# Altium footprint library Humidity Regulator.PcbLib: 29 footprints (part 2 of 2)
Each footprint in its own frame and in the unit in brackets; x right, y up, seen from the top. Pads: shape width x height; smd on the part's side, far side on the other; paste and mask are expansions set on the pad; w line width, h text height; cw(c..) or ccw(c..) is an arc to the next point about the centre after c.
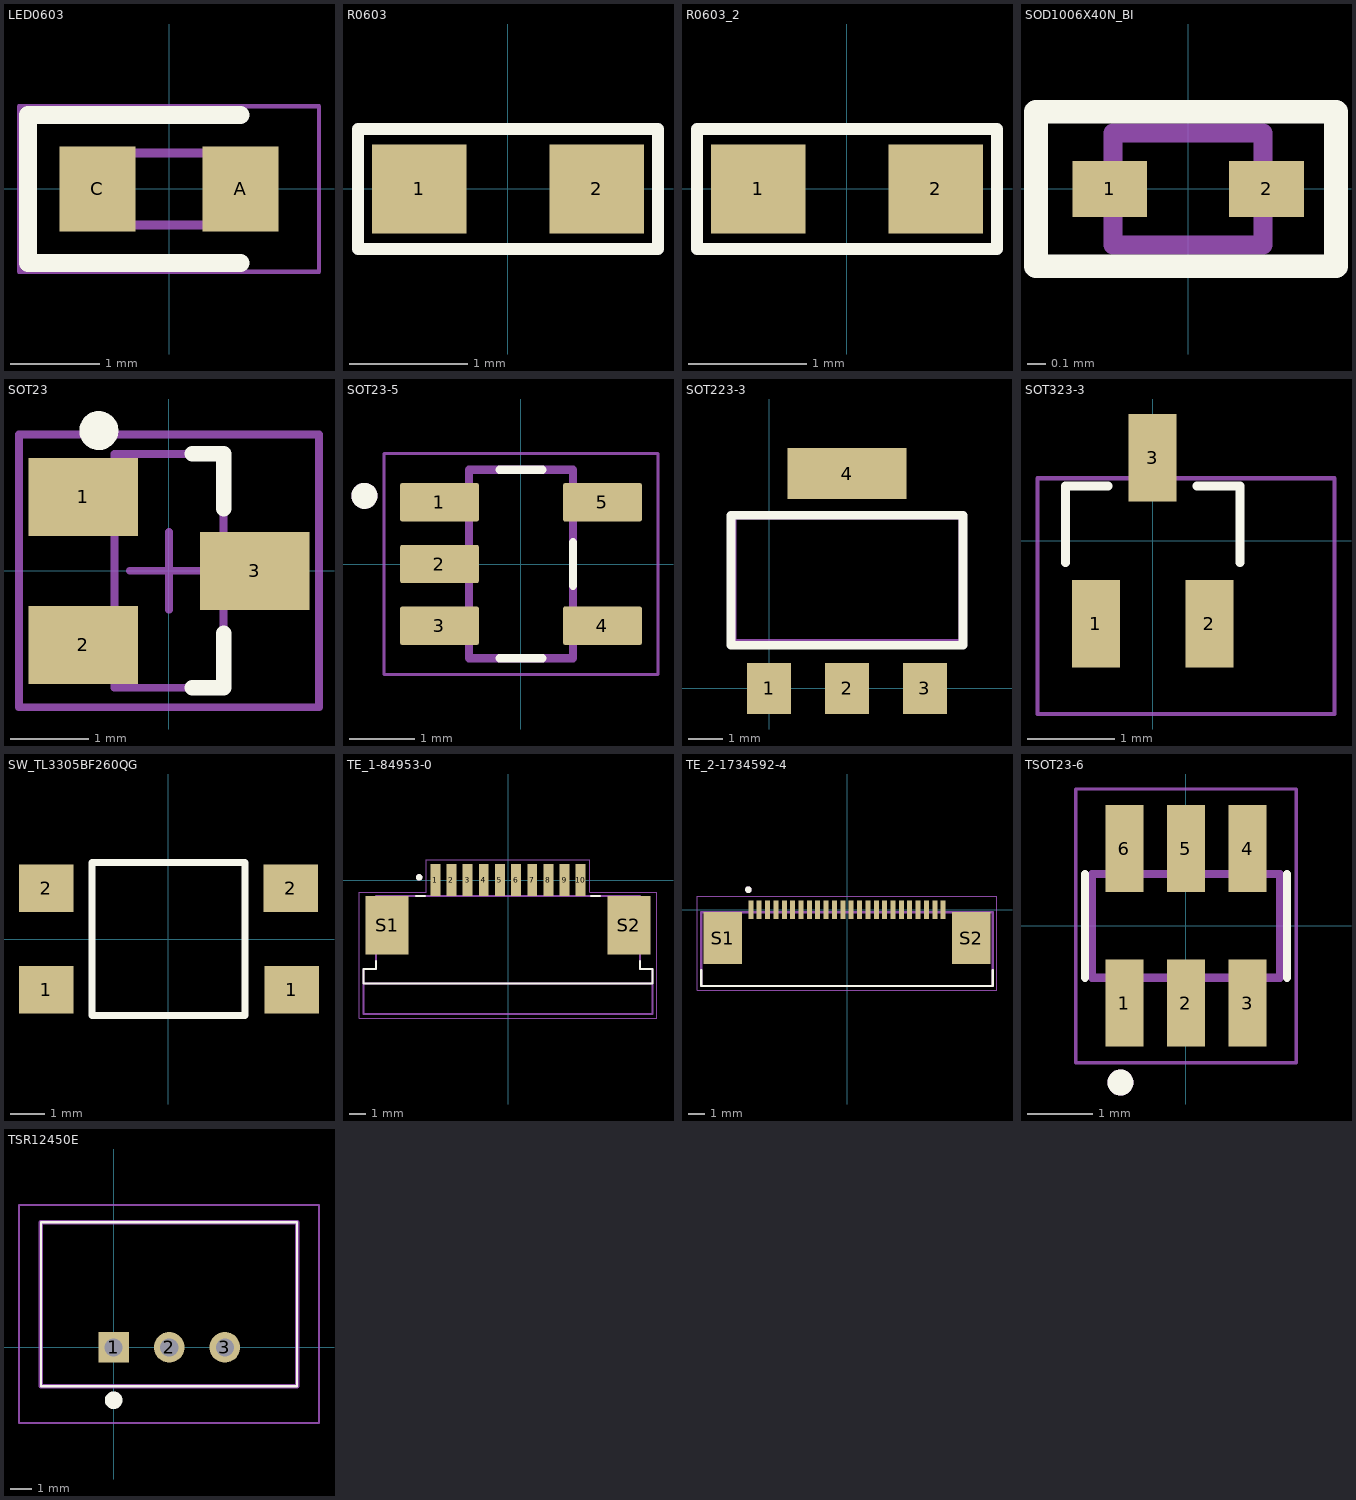
[diagram p1: the footprints below, top view; thin cyan lines are the x and y axes]

## LED0603 [mm]
height 2.5
pads (2):
  rect 0.85x0.95 smd: A(0.8,0) C(-0.8,0)
Top Overlay:
  lines w0.2: 0.8,-0.825 -1.575,-0.825 -1.575,0.825 0.8,0.825
Mechanical 15:
  lines w0.1: -0.8,0.133 -0.533,0.4 ; -0.8,-0.4 0.8,-0.4 0.8,0.4 -0.8,0.4 -0.8,-0.4
Mechanical 20:
  lines w0.05: -1.675,-0.925 1.675,-0.925 1.675,0.925 -1.675,0.925 -1.675,-0.925
3D body "SML-D12U1WT86.stp": height 0.54, standoff -0.02, extent -0.8,-0.4 0.8,0.4

## R0603 [mm] "RESISTOR SMD 0603"
height 0.45
pads (2):
  rect 0.8x0.75 smd: 1(-0.75,0) 2(0.75,0)
Top Overlay:
  lines w0.1: -1.27,-0.508 -1.27,0.508 1.27,0.508 1.27,-0.508 -1.27,-0.508
3D body "User Library-0603(1608M) Res.STEP": height 0.79, standoff 0, extent -1,-0.394 1,0.394

## R0603_2 [mm]
pads (2):
  rect 0.8x0.75 smd: 1(-0.75,0) 2(0.75,0)
Top Overlay:
  lines w0.1: -1.27,-0.508 1.27,-0.508 1.27,0.508 -1.27,0.508 -1.27,-0.508
3D body "User Library-0603(1608M) Res.STEP": height 0.79, standoff 0, extent -1,-0.394 1,0.394

## SOD1006X40N_BI [mm] "ESD9B3.3ST5G,ESD9B3.3ST5G"
height 0.4
pads (2):
  rect 0.4x0.3 smd mask+0.051: 1(-0.42,0) 2(0.42,0)
Top Overlay:
  lines w0.127: -0.816,-0.415 0.793,-0.415 0.793,0.414 -0.816,0.414 -0.816,-0.415
Mechanical 12:
  lines w0.102: -0.404,-0.3 0.4,-0.3 0.4,0.3 -0.404,0.3 -0.404,-0.3
  text ".Designator" at 1.69,0.138 h1.02
3D body "User Library-DIODE_SOD-923.step": height 0.43, standoff 0, extent -0.525,-0.325 0.525,0.325

## SOT23 [mm] "SOT23 semtech SM712"
height 1
pads (3):
  rect 1.4x1 smd: 1(-1.1,0.95) 2(-1.1,-0.95) 3(1.1,0)
Top Overlay:
  circle w0.25: c-0.9,1.8 r0.125
  lines w0.2: 0.3,-1.5 0.7,-1.5 0.7,-0.8 ; 0.3,1.5 0.7,1.5 0.7,0.8
Mechanical 13:
  lines w0.1: -0.7,-1.5 -0.7,1.5 0.7,1.5 0.7,-1.5 -0.7,-1.5
  text ".Designator" at -0.08,0.877 h0.25
Mechanical 15:
  lines w0.1: -0.5,0 0.5,0 ; 0,-0.5 0,0.5 ; -1.925,-1.75 -1.925,1.75 1.925,1.75 1.925,-1.75 -1.925,-1.75
3D body: height 1.1, standoff 0.1, extent -0.7,-1.5 0.7,1.5
3D body: height 0.2, standoff 0, extent -1.422,0.711 -1.067,1.219
3D body: height 0.2, standoff 0, extent -1.473,-1.219 -1.067,-0.711
3D body: height 0.2, standoff 0, extent 1.067,-0.254 1.473,0.254
3D body: height 0.55, standoff 0, extent -1.067,0.711 -0.864,1.219
3D body: height 0.55, standoff 0, extent -1.067,-1.219 -0.864,-0.711
3D body: height 0.55, standoff 0, extent 0.864,-0.254 1.067,0.254
3D body: height 0.55, standoff 0.35, extent 0.66,-0.254 0.864,0.254
3D body: height 0.55, standoff 0.35, extent -0.864,-1.219 -0.66,-0.711
3D body: height 0.55, standoff 0.35, extent -0.864,0.711 -0.61,1.219

## SOT23-5 [mm]
height 0.5
pads (5):
  rrect9% 1.21x0.59 smd: 1(-1.255,0.95) 2(-1.255,0) 3(-1.255,-0.95) 4(1.255,-0.95) 5(1.255,0.95)
Top Overlay:
  circle w0.2: c-2.41,1.05 r0.1
  lines w0.127: -0.33,-1.45 0.33,-1.45 ; -0.33,1.45 0.33,1.45 ; 0.8,-0.335 0.8,0.335
Mechanical 13:
  circle w0.2: c-2.41,1.05 r0.1
  lines w0.127: -0.8,-1.45 0.8,-1.45 0.8,1.45 -0.8,1.45 -0.8,-1.45
Mechanical 15:
  lines w0.05: -2.11,-1.7 -2.11,1.7 2.11,1.7 2.11,-1.7 -2.11,-1.7
3D body "step_temp.STEP": height 1.45, standoff 0, extent -1.4,-1.45 1.4,1.45

## SOT223-3 [mm]
height 2
pads (4):
  rect 1.3x1.5 smd: 1(0,0) 2(2.286,0) 3(4.572,0)
  rect 3.5x1.5 smd: 4(2.286,6.299)
Top Overlay:
  lines w0.254: -1.116,1.27 5.688,1.27 5.688,5.08 -1.116,5.08 -1.116,1.27
Mechanical 1:
  lines w0.2: -1.05,1.35 5.65,1.35 5.65,5.05 -1.05,5.05 -1.05,1.35
3D body "SW3dPS-sot-223.step": height 1.64, standoff -0.04, extent -1,-0.3 5.5,6.632

## SOT323-3 [mm]
height 17.75
pads (3):
  rect 0.55x1 smd: 1(-0.65,-0.95) 2(0.65,-0.95) 3(0,0.95)
Top Overlay:
  lines w0.1: -1,-0.254 -1,0.625 -0.508,0.625 ; 0.508,0.625 1,0.625 1,-0.254
Mechanical 20:
  lines w0.05: -1.319,-1.985 -1.319,0.715 2.081,0.715 2.081,-1.985 -1.319,-1.985
3D body "BSS138PW,115.stp": height 0.93, standoff -0.02, extent -1.084,-1.05 1.016,1.05

## SW_TL3305BF260QG [mm]
pads (4):
  rect 1.6x1.4 smd: 1(-3.6,-1.5) 1(3.63,-1.5) 2(-3.6,1.5) 2(3.6,1.5)
Top Overlay:
  lines w0.2: -2.25,-2.25 -2.25,2.25 2.25,2.25 2.25,-2.25 -2.25,-2.25

## TE_1-84953-0 [mm]
height 0.5
pads (12):
  rect 0.61x2 smd: 1(-4.5,0) 2(-3.5,0) 3(-2.5,0) 4(-1.5,0) 5(-0.5,0) 6(0.5,0) 7(1.5,0) 8(2.5,0) 9(3.5,0) 10(4.5,0)
  rect 2.68x3.6 smd: S1(-7.49,-2.8) S2(7.49,-2.8)
Top Overlay:
  circle w0.2: c-5.5,0.17 r0.1
  lines w0.127: -8.175,-5 -8.175,-5.51 -8.96,-5.51 -8.96,-6.4 8.96,-6.4 8.96,-5.51 8.175,-5.51 8.175,-5 ; -5.7,-1 -5.14,-1 ; 5.14,-1 5.7,-1
Mechanical 13:
  circle w0.2: c-5.5,0.17 r0.1
  lines w0.127: -8.96,-6.4 -8.96,-8.3 8.96,-8.3 8.96,-6.4 ; -8.96,-6.4 8.96,-6.4 ; -8.96,-6.4 -8.96,-5.51 -8.175,-5.51 -8.175,-1 8.175,-1 8.175,-5.51 8.96,-5.51 8.96,-6.4
Mechanical 15:
  lines w0.05: -9.21,-8.55 9.21,-8.55 9.21,-0.75 5.055,-0.75 5.055,1.25 -5.055,1.25 -5.055,-0.75 -9.21,-0.75 -9.21,-8.55
3D body "1-84953-0.stp": height 2.56, standoff -0.1, extent -8.955,-6.423 8.955,0.127

## TE_2-1734592-4 [mm]
height 0.5
pads (26):
  rect 0.3x1.1 smd: 1(-5.75,0) 2(-5.25,0) 3(-4.75,0) 4(-4.25,0) 5(-3.75,0) 6(-3.25,0) 7(-2.75,0) 8(-2.25,0) 9(-1.75,0) 10(-1.25,0) 11(-0.75,0) 12(-0.25,0) 13(0.25,0) 14(0.75,0) 15(1.25,0) 16(1.75,0) 17(2.25,0) 18(2.75,0) 19(3.25,0) 20(3.75,0) 21(4.25,0) 22(4.75,0) 23(5.25,0) 24(5.75,0)
  rect 2.3x3.1 smd: S1(-7.42,-1.7) S2(7.42,-1.7)
Top Overlay:
  circle w0.2: c-5.9,1.2 r0.1
  lines w0.127: -8.715,-3.6 -8.715,-4.55 8.715,-4.55 8.715,-3.6
Mechanical 13:
  circle w0.2: c-5.9,1.2 r0.1
  lines w0.127: -8.715,-4.55 8.715,-4.55 8.715,-0.15 -8.715,-0.15 -8.715,-4.55
Mechanical 15:
  lines w0.05: -8.965,-4.8 8.965,-4.8 8.965,0.8 -8.965,0.8 -8.965,-4.8

## TSOT23-6 [mm] "SOT23 semtech SM712"
height 1
pads (6):
  rect 0.59x1.34 smd: 1(-0.95,-1.19) 2(0,-1.19) 3(0.95,-1.19) 4(0.95,1.19) 5(0,1.19) 6(-0.95,1.19)
Top Overlay:
  circle w0.2: c-1.011,-2.416 r0.1
  lines w0.127: -1.558,-0.8 -1.558,0.8 ; 1.559,-0.8 1.559,0.8
Mechanical 13:
  circle w0.2: c-1.011,-2.416 r0.1
  lines w0.127: -1.45,-0.8 -1.45,0.8 1.45,0.8 1.45,-0.8 -1.45,-0.8
Mechanical 15:
  lines w0.05: -1.7,-2.11 -1.7,2.11 1.7,2.11 1.7,-2.11 -1.7,-2.11
3D body "step_temp.STEP": height 1, standoff 0, extent -1.45,-1.4 1.45,1.4

## TSR12450E [mm]
pads (3):
  rect 1.4x1.4 hole 0.83: 1(0,0)
  round 1.4 hole 0.83: 2(2.54,0) 3(5.08,0)
Top Overlay:
  circle w0.4: c0,-2.413 r0.2
  lines w0.1: -3.32,-1.778 8.38,-1.778 8.38,5.715 -3.32,5.715 -3.32,-1.778
Mechanical 15:
  lines w0.2: -3.32,-1.778 8.38,-1.778 8.38,5.715 -3.32,5.715 -3.32,-1.778
Mechanical 20:
  lines w0.1: -4.32,-3.45 9.38,-3.45 9.38,6.5 -4.32,6.5 -4.32,-3.45
3D body "TSR_1-2450E.stp": height 10.67, standoff -3.63, extent -3.26,-1.785 8.34,5.715